# EAGLE library part SN74141 (library SN74141)
Nixie driver Source: Datasheet <http://pdf1.alldatasheet.com/datasheet-pdf/view/115763/TI/SN74141.html>
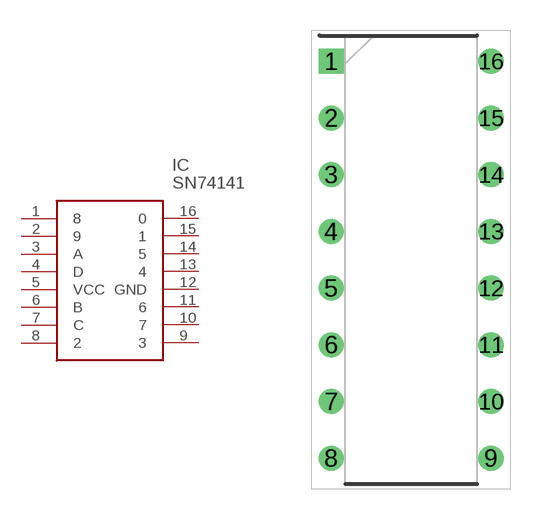
[diagram p0: symbol with the pads of DIP787W53P279L2176H508Q16N; footprint DIP787W53P279L2176H508Q16N]

Designator prefix IC

## SN74141 (Description: Nixie driver; Height: 5.08mm; Manufacturer_Name: Texas Instruments; Manufacturer_Part_Number: SN74141)  [DIP787W53P279L2176H508Q16N]
1  8  out
2  9  out
3  A  in
4  D  in
5  VCC  pwr
6  B  in
7  C  in
8  2  out
9  3  out
10  7  out
11  6  out
12  GND  pwr
13  4  out
14  5  out
15  1  out
16  0  out

## Footprint DIP787W53P279L2176H508Q16N (pad centres in mm)
SN74141
drill 0.733 pad 1.133 square: 1 -3.937,9.779
drill 0.733 pad 1.133: 2 -3.937,6.985; 3 -3.937,4.191; 4 -3.937,1.397; 5 -3.937,-1.397; 6 -3.937,-4.191; 7 -3.937,-6.985; 8 -3.937,-9.779; 9 3.937,-9.779; 10 3.937,-6.985; 11 3.937,-4.191; 12 3.937,-1.397; 13 3.937,1.397; 14 3.937,4.191; 15 3.937,6.985; 16 3.937,9.779